# Altium footprint library LibZynqEvalBoard.PcbLib: 75 footprints (part 2 of 5)
Each footprint in its own frame and in the unit in brackets; x right, y up, seen from the top. Pads: shape width x height; smd on the part's side, far side on the other; paste and mask are expansions set on the pad; w line width, h text height; cw(c..) or ccw(c..) is an arc to the next point about the centre after c.
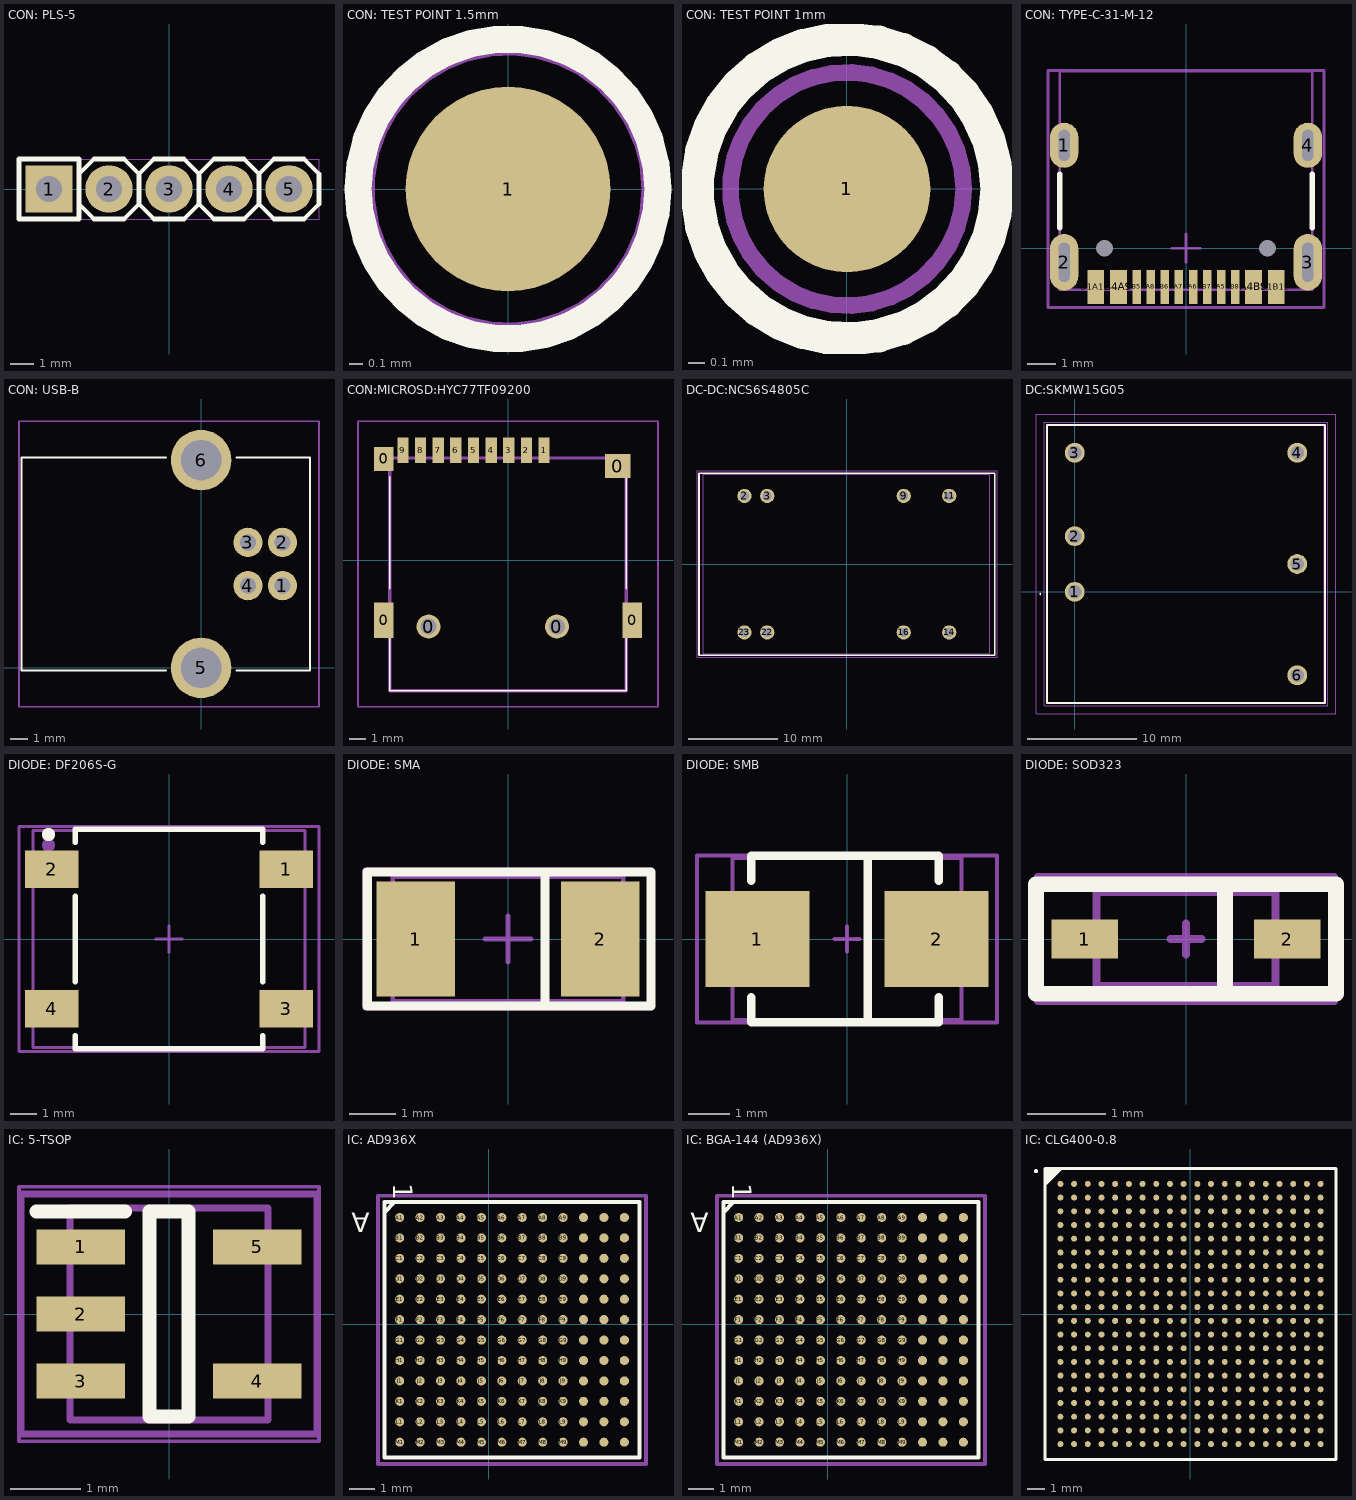
[diagram p1: the footprints below, top view; thin cyan lines are the x and y axes]

## CON: PLS-5 [mm]
height 10
pads (5):
  rect 2x2 hole 1.1: 1(-5.08,0)
  round 2 hole 1.1: 2(-2.54,0) 3(0,0) 4(2.54,0) 5(5.08,0)
Top Overlay:
  lines w0.2: -3.81,-0.635 -3.175,-1.27 -1.905,-1.27 -1.27,-0.635 ; -3.81,0.635 -3.175,1.27 -1.905,1.27 -1.27,0.635 ; -1.27,-0.635 -0.635,-1.27 0.635,-1.27 1.27,-0.635 ; -1.27,-0.635 -1.27,0.635 ; -1.27,0.635 -0.635,1.27 0.635,1.27 1.27,0.635 ; 1.27,-0.635 1.905,-1.27 3.175,-1.27 3.81,-0.635 ; 1.27,-0.635 1.27,0.635 ; 1.27,0.635 1.905,1.27 3.175,1.27 3.81,0.635 ; 3.81,-0.635 4.445,-1.27 5.715,-1.27 6.35,-0.635 6.35,0.635 5.715,1.27 4.445,1.27 3.81,0.635 ; 3.81,-0.635 3.81,0.635 ; -6.35,-1.27 -3.81,-1.27 -3.81,1.27 -6.35,1.27 -6.35,-1.27
Top Assembly:
  lines w0.1: -3.81,-0.635 -3.175,-1.27 -1.905,-1.27 -1.27,-0.635 ; -3.81,0.635 -3.175,1.27 -1.905,1.27 -1.27,0.635 ; -1.27,-0.635 -1.27,0.635 ; -1.27,-0.635 -0.635,-1.27 0.635,-1.27 1.27,-0.635 ; -1.27,0.635 -0.635,1.27 0.635,1.27 1.27,0.635 ; 1.27,-0.635 1.27,0.635 ; 1.27,-0.635 1.905,-1.27 3.175,-1.27 3.81,-0.635 ; 1.27,0.635 1.905,1.27 3.175,1.27 3.81,0.635 ; 3.81,-0.635 3.81,0.635 ; 3.81,-0.635 4.445,-1.27 5.715,-1.27 6.35,-0.635 6.35,0.635 5.715,1.27 4.445,1.27 3.81,0.635 ; -6.35,-1.27 -6.35,1.27 -3.81,1.27 -3.81,-1.27 -6.35,-1.27
Mechanical 15:
  lines w0.05: -6.35,-1.27 -6.35,1.27 6.35,1.27 6.35,-1.27 -6.35,-1.27
  lines w0.1: -0.5,0 0.5,0 ; 0,-0.5 0,0.5
3D body "PLS-5.STEP": height 8.54, standoff -3, extent -6.35,-1.27 6.35,1.27

## CON: TEST POINT 1.5mm [mm]
pads (1):
  round 1.5 smd: 1(0,0)
Top Overlay:
  circle w0.2: c0,0 r1.1
Top Assembly:
  circle w0.1: c0,0 r1.03
Mechanical 15:
  circle w0.1: c0,0 r1.03

## CON: TEST POINT 1mm [mm]
pads (1):
  round 1 smd: 1(0,0)
Top Overlay:
  circle w0.2: c0,0 r0.9
Top Assembly:
  circle w0.1: c0,0 r0.7

## CON: TYPE-C-31-M-12 [mm]
pads (18):
  oval 1x1.6 hole 0.4 slot 1.1 at 90 deg mask+0.075: 1(-4.32,3.65) 4(4.32,3.65)
  oval 1x2 hole 0.4 slot 1.4 at 90 deg mask+0.075: 2(-4.32,-0.5) 3(4.32,-0.5)
  rect 0.6x1.2 smd mask+0.075: A1B12(3.2,-1.375) A4B9(2.4,-1.375) B1A12(-3.2,-1.375) B4A9(-2.4,-1.375)
  rect 0.3x1.2 smd mask+0.075: A5(1.25,-1.375) A6(0.25,-1.375) A7(-0.25,-1.375) A8(-1.25,-1.375) B5(-1.75,-1.375) B6(-0.75,-1.375) B7(0.75,-1.375) B8(1.75,-1.375)
  round 0 hole 0.6 mask+0.075: MH(-2.89,0) MH(2.89,0)
Top Overlay:
  lines w0.2: -4.475,0.725 -4.475,2.625 ; 4.475,0.725 4.475,2.625
Top Assembly:
  lines w0.1: -4.475,-1.475 4.475,-1.475 4.475,6.275 -4.475,6.275 -4.475,-1.475
Mechanical 15:
  lines w0.1: -0.5,0 0.5,0 ; 0,-0.5 0,0.5 ; -4.9,-2.1 -4.9,6.3 4.9,6.3 4.9,-2.1 -4.9,-2.1
3D body "User Library-USB - C.STEP": height 3.26, standoff -1, extent -4.475,-1.475 4.475,6.275

## CON: USB-B [mm]
pads (6):
  round 1.7 hole 0.92 slot 0.925 at 0 deg paste+0 mask+0.102: 1(4.71,4.77) 2(4.71,7.27) 3(2.71,7.27) 4(2.71,4.77)
  round 3.5 hole 2.33 slot 2.33 at 0 deg paste+0 mask+0.102: 5(0,0) 6(0,12.04)
Top Overlay:
  lines w0.12: -2.05,-0.14 -10.41,-0.14 -10.41,12.18 -2.05,12.18 ; 2.05,-0.14 6.31,-0.14 6.31,12.18 2.05,12.18
Mechanical 15:
  lines w0.003: -0.082,6.146 -0.081,6.147
  lines w0.1: -10.55,-2.25 -10.55,14.29 6.825,14.29 6.825,-2.25 -10.55,-2.25
3D body "0670688000.stp": height 11.5, standoff -3.72, extent -10.25,-1.38 6.75,13.48

## CON:MICROSD:HYC77TF09200 [mm]
pads (15):
  rect 1.2x2.2 smd: 0(-7.75,-3.725) 0(7.75,-3.725)
  rect 1.2x1.5 smd: 0(-7.75,6.325)
  round 1.5 hole 1: 0(-4.95,-4.125) 0(3.05,-4.125)
  rect 1.6x1.5 smd: 0(6.85,5.875)
  rect 0.7x1.6 smd: 1(2.25,6.875) 2(1.15,6.875) 3(0.05,6.875) 4(-1.05,6.875) 5(-2.15,6.875) 6(-3.25,6.875) 7(-4.35,6.875) 8(-5.45,6.875) 9(-6.55,6.875)
Top Overlay:
  lines w0.1: -7.375,-4.775 -7.375,-8.125 7.375,-8.125 7.375,-4.775 ; -7.375,-1.775 -7.375,5.225 ; 7.375,-1.775 7.375,5.225
Top 3D Body (Mech13):
  lines w0.2: -7.375,-8.125 7.375,-8.125 7.375,6.375 -7.375,6.375 -7.375,-8.125
Mechanical 15:
  lines w0.1: -9.35,-9.125 9.35,-9.125 9.35,8.675 -9.35,8.675 -9.35,-9.125
3D body "HYC77-TF09-200.stp": height 2.1, standoff -5, extent -8.23,-8.125 8.23,7.605

## DC-DC:NCS6S4805C [mm]
pads (8):
  round 1.6 hole 1: 2(-11.43,7.62) 3(-8.89,7.62) 9(6.35,7.62) 11(11.43,7.62) 14(11.43,-7.62) 16(6.35,-7.62) 22(-8.89,-7.62) 23(-11.43,-7.62)
Top Overlay:
  lines w0.2: -16.51,-10.16 16.49,-10.16 16.51,-10.14 16.51,10.16 -16.51,10.16 -16.51,-10.16
Top Assembly:
  lines w0.1: -16.03,-9.98 15.97,-9.98 15.97,10.02 -16.03,10.02 -16.03,-9.98
Mechanical 15:
  lines w0.1: -16.73,-10.38 -16.73,10.42 16.77,10.42 16.77,-10.38 -16.73,-10.38
3D body "NCS6S4805C.stp": height 10.6, standoff -5, extent -16,-10 16,10

## DC:SKMW15G05 [mm]
pads (6):
  round 1.8 hole 1.2: 1(0,0) 2(0,5.08) 3(0,12.7) 4(20.32,12.7) 5(20.32,2.54) 6(20.32,-7.62)
Top Overlay:
  lines w0.1: -3.2,-0.2 cw(c-3.15,-0.2) -3.1,-0.2 cw(c-3.15,-0.2) -3.2,-0.2
  lines w0.2: -2.54,-10.16 -2.54,15.24 22.86,15.24 22.86,-10.16 -2.54,-10.16
Top Assembly:
  lines w0.1: -2.5,-10.2 22.8,-10.2 22.8,15.2 -2.5,15.2 -2.5,-10.2
Mechanical 15:
  lines w0.1: -2.8,-10.4 -2.8,15.5 23.1,15.5 23.1,-10.4 -2.8,-10.4
Mechanical 20:
  lines w0.1: -3.54,-11.16 -3.54,16.24 23.86,16.24 23.86,-11.16 -3.54,-11.16
3D body "SKMW15G-05.stp": height 11.3, standoff -5, extent -2.54,-10.16 22.86,15.24

## DIODE: DF206S-G [mm]
height 22
pads (6):
  rect 2x1.4 smd: 1(4.37,2.605) 2(-4.37,2.605) 3(4.37,-2.605) 4(-4.37,-2.605)
  round 0.5 on Mech1: ""(-4.5,3.5)
  round 0.5 on Top Overlay: ""(-4.5,3.9)
Top Overlay:
  lines w0.2: -3.5,-3.6 -3.5,-4.1 3.5,-4.1 3.5,-3.6 ; -3.5,-1.6 -3.5,1.6 ; -3.5,3.6 -3.5,4.1 3.5,4.1 3.5,3.6 ; 3.5,-1.6 3.5,1.6
Top Assembly:
  lines w0.1: -5.075,-4.05 -5.075,4.05 5.075,4.05 5.075,-4.05 -5.075,-4.05
Mechanical 15:
  lines w0.1: -0.5,0 0.5,0 ; 0,-0.5 0,0.5 ; -5.6,-4.2 -5.6,4.2 5.6,4.2 5.6,-4.2 -5.6,-4.2
3D body "User Library-PONTE-1.STEP": height 2.7, standoff 0, extent -5.075,-4.05 5.075,4.05

## DIODE: SMA [mm]
pads (3):
  rect 1.7x2.5 smd: 1(-2,0) 2(2,0)
  round 0.5 on Mech1: ""(2,0.9)
Top Overlay:
  lines w0.2: 0.8,-1.45 0.8,1.45 ; -3.05,-1.45 3.1,-1.45 3.1,1.45 -3.05,1.45 -3.05,-1.45
Top Assembly:
  lines w0.1: -2.5,-1.35 2.5,-1.35 2.5,1.35 -2.5,1.35 -2.5,-1.35
Mechanical 15:
  lines w0.1: -0.5,0 0.5,0 ; 0,-0.5 0,0.5 ; -3.1,-1.5 -3.1,1.5 3.1,1.5 3.1,-1.5 -3.1,-1.5
3D body "User Library-Diode Molded BodyDIOM5025X231N.STEP": height 2.28, standoff -0.03, extent -2.5,-1.35 2.5,1.35

## DIODE: SMB [mm]
pads (2):
  rect 2.5x2.3 smd: 1(-2.15,0) 2(2.15,0)
Top Overlay:
  lines w0.2: -2.3,-1.4 -2.3,-2 2.2,-2 2.2,-1.4 ; -2.3,1.4 -2.3,2 2.2,2 2.2,1.4 ; 0.5,-2 0.5,2
Top Assembly:
  lines w0.1: 0.5,-1.95 0.5,1.95 ; -2.75,-1.95 2.75,-1.95 2.75,1.95 -2.75,1.95 -2.75,-1.95
Mechanical 15:
  lines w0.1: -0.3,0 0.3,0 ; 0,-0.3 0,0.3 ; -3.6,-2 -3.6,2 3.6,2 3.6,-2 -3.6,-2
3D body "User Library-DIOM5539X24.STEP": height 2.45, standoff 0.03, extent -2.75,-1.95 2.75,1.95

## DIODE: SOD323 [mm]
pads (2):
  rect 0.85x0.5 smd: 1(-1.3,0) 2(1.3,0)
Top Overlay:
  lines w0.2: 0.5,-0.7 0.5,0.7 ; -1.925,-0.7 1.925,-0.7 1.925,0.7 -1.925,0.7 -1.925,-0.7
Top Assembly:
  lines w0.1: 0.5,-0.6 0.5,0.575 ; -1.15,-0.6 -1.15,0.6 1.15,0.6 1.15,-0.6 -1.15,-0.6
Mechanical 15:
  lines w0.1: -0.2,0 0.2,0 ; 0,-0.2 0,0.2 ; -1.9,-0.8 1.9,-0.8 1.9,0.8 -1.9,0.8 -1.9,-0.8
3D body "User Library-1N4148WS.STEP": height 1.04, standoff -0.06, extent -1.15,-0.6 1.15,0.6

## IC: 5-TSOP [mm]
pads (5):
  rect 1.25x0.5 smd: 1(-1.25,0.95) 2(-1.25,0) 3(-1.25,-0.95) 4(1.25,-0.95) 5(1.25,0.95)
Top Overlay:
  lines w0.2: -1.875,1.45 -0.625,1.45 ; -0.275,-1.45 0.275,-1.45 0.275,1.45 -0.275,1.45 -0.275,-1.45
Top Assembly:
  lines w0.1: -1.4,-1.5 -1.4,1.5 1.4,1.5 1.4,-1.5 -1.4,-1.5
Mechanical 15:
  lines w0.1: -2.1,-1.7 2.1,-1.7 2.1,1.7 -2.1,1.7 -2.1,-1.7
Mechanical 20:
  lines w0.05: -2.125,-1.8 2.125,-1.8 2.125,1.8 -2.125,1.8 -2.125,-1.8
3D body "74LVC1G125GV,125.stp": height 1.02, standoff 0.02, extent -1.389,-1.475 1.4,1.475

## IC: AD936X [mil]
pads (144):
  round 14 smd: A1(-137.01,164.51) A2(-105.51,164.51) A3(-74.02,164.51) A4(-42.52,164.51) A5(-11.02,164.51) A6(20.47,164.51) A7(51.97,164.51) A8(83.46,164.51) A9(114.96,164.51) A10(146.46,164.51) A11(177.95,164.51) A12(209.45,164.51) B1(-137.01,133.01) B2(-105.51,133.01) B3(-74.02,133.01) B4(-42.52,133.01) B5(-11.02,133.01) B6(20.47,133.01) B7(51.97,133.01) B8(83.46,133.01) B9(114.96,133.01) B10(146.46,133.01) B11(177.95,133.01) B12(209.45,133.01) C1(-137.01,101.52) C2(-105.51,101.52) C3(-74.02,101.52) C4(-42.52,101.52) C5(-11.02,101.52) C6(20.47,101.52) C7(51.97,101.52) C8(83.46,101.52) C9(114.96,101.52) C10(146.46,101.52) C11(177.95,101.52) C12(209.45,101.52) D1(-137.01,70.02) D2(-105.51,70.02) D3(-74.02,70.02) D4(-42.52,70.02) D5(-11.02,70.02) D6(20.47,70.02) D7(51.97,70.02) D8(83.46,70.02) D9(114.96,70.02) D10(146.46,70.02) D11(177.95,70.02) D12(209.45,70.02) E1(-137.01,38.52) E2(-105.51,38.52) E3(-74.02,38.52) E4(-42.52,38.52) E5(-11.02,38.52) E6(20.47,38.52) E7(51.97,38.52) E8(83.46,38.52) E9(114.96,38.52) E10(146.46,38.52) E11(177.95,38.52) E12(209.45,38.52) F1(-137.01,7.03) F2(-105.51,7.03) F3(-74.02,7.03) F4(-42.52,7.03) F5(-11.02,7.03) F6(20.47,7.03) F7(51.97,7.03) F8(83.46,7.03) F9(114.96,7.03) F10(146.46,7.03) F11(177.95,7.03) F12(209.45,7.03) G1(-137.01,-24.47) G2(-105.51,-24.47) G3(-74.02,-24.47) G4(-42.52,-24.47) G5(-11.02,-24.47) G6(20.47,-24.47) G7(51.97,-24.47) G8(83.46,-24.47) G9(114.96,-24.47) G10(146.46,-24.47) G11(177.95,-24.47) G12(209.45,-24.47) H1(-137.01,-55.96) H2(-105.51,-55.96) H3(-74.02,-55.96) H4(-42.52,-55.96) H5(-11.02,-55.96) H6(20.47,-55.96) H7(51.97,-55.96) H8(83.46,-55.96) H9(114.96,-55.96) H10(146.46,-55.96) H11(177.95,-55.96) H12(209.45,-55.96) J1(-137.01,-87.46) J2(-105.51,-87.46) J3(-74.02,-87.46) J4(-42.52,-87.46) J5(-11.02,-87.46) J6(20.47,-87.46) J7(51.97,-87.46) J8(83.46,-87.46) J9(114.96,-87.46) J10(146.46,-87.46) J11(177.95,-87.46) J12(209.45,-87.46) K1(-137.01,-118.96) K2(-105.51,-118.96) K3(-74.02,-118.96) K4(-42.52,-118.96) K5(-11.02,-118.96) K6(20.47,-118.96) K7(51.97,-118.96) K8(83.46,-118.96) K9(114.96,-118.96) K10(146.46,-118.96) K11(177.95,-118.96) K12(209.45,-118.96) L1(-137.01,-150.45) L2(-105.51,-150.45) L3(-74.02,-150.45) L4(-42.52,-150.45) L5(-11.02,-150.45) L6(20.47,-150.45) L7(51.97,-150.45) L8(83.46,-150.45) L9(114.96,-150.45) L10(146.46,-150.45) L11(177.95,-150.45) L12(209.45,-150.45) M1(-137.01,-181.95) M2(-105.51,-181.95) M3(-74.02,-181.95) M4(-42.52,-181.95) M5(-11.02,-181.95) M6(20.47,-181.95) M7(51.97,-181.95) M8(83.46,-181.95) M9(114.96,-181.95) M10(146.46,-181.95) M11(177.95,-181.95) M12(209.45,-181.95)
Top Overlay:
  lines w6: -160.63,172.38 -144.88,188.13 ; -160.63,-205.57 -160.63,188.13 233.07,188.13 233.07,-205.57 -160.63,-205.57
  text "A" at -183,172 h30
  text "1" at -147,217 h30
Bottom Assembly:
  lines w1: -160.63,172.38 -144.88,188.13 ; -160.63,-205.57 -160.63,188.13 233.07,188.13 233.07,-205.57 -160.63,-205.57
  lines w6: -170.63,-215.57 243.07,-215.57 243.07,198.13 -170.63,198.13 -170.63,-215.57

## IC: BGA-144 (AD936X) [mil]
pads (144):
  round 14 smd: A1(-137.01,164.51) A2(-105.51,164.51) A3(-74.02,164.51) A4(-42.52,164.51) A5(-11.02,164.51) A6(20.47,164.51) A7(51.97,164.51) A8(83.46,164.51) A9(114.96,164.51) A10(146.46,164.51) A11(177.95,164.51) A12(209.45,164.51) B1(-137.01,133.01) B2(-105.51,133.01) B3(-74.02,133.01) B4(-42.52,133.01) B5(-11.02,133.01) B6(20.47,133.01) B7(51.97,133.01) B8(83.46,133.01) B9(114.96,133.01) B10(146.46,133.01) B11(177.95,133.01) B12(209.45,133.01) C1(-137.01,101.52) C2(-105.51,101.52) C3(-74.02,101.52) C4(-42.52,101.52) C5(-11.02,101.52) C6(20.47,101.52) C7(51.97,101.52) C8(83.46,101.52) C9(114.96,101.52) C10(146.46,101.52) C11(177.95,101.52) C12(209.45,101.52) D1(-137.01,70.02) D2(-105.51,70.02) D3(-74.02,70.02) D4(-42.52,70.02) D5(-11.02,70.02) D6(20.47,70.02) D7(51.97,70.02) D8(83.46,70.02) D9(114.96,70.02) D10(146.46,70.02) D11(177.95,70.02) D12(209.45,70.02) E1(-137.01,38.52) E2(-105.51,38.52) E3(-74.02,38.52) E4(-42.52,38.52) E5(-11.02,38.52) E6(20.47,38.52) E7(51.97,38.52) E8(83.46,38.52) E9(114.96,38.52) E10(146.46,38.52) E11(177.95,38.52) E12(209.45,38.52) F1(-137.01,7.03) F2(-105.51,7.03) F3(-74.02,7.03) F4(-42.52,7.03) F5(-11.02,7.03) F6(20.47,7.03) F7(51.97,7.03) F8(83.46,7.03) F9(114.96,7.03) F10(146.46,7.03) F11(177.95,7.03) F12(209.45,7.03) G1(-137.01,-24.47) G2(-105.51,-24.47) G3(-74.02,-24.47) G4(-42.52,-24.47) G5(-11.02,-24.47) G6(20.47,-24.47) G7(51.97,-24.47) G8(83.46,-24.47) G9(114.96,-24.47) G10(146.46,-24.47) G11(177.95,-24.47) G12(209.45,-24.47) H1(-137.01,-55.96) H2(-105.51,-55.96) H3(-74.02,-55.96) H4(-42.52,-55.96) H5(-11.02,-55.96) H6(20.47,-55.96) H7(51.97,-55.96) H8(83.46,-55.96) H9(114.96,-55.96) H10(146.46,-55.96) H11(177.95,-55.96) H12(209.45,-55.96) J1(-137.01,-87.46) J2(-105.51,-87.46) J3(-74.02,-87.46) J4(-42.52,-87.46) J5(-11.02,-87.46) J6(20.47,-87.46) J7(51.97,-87.46) J8(83.46,-87.46) J9(114.96,-87.46) J10(146.46,-87.46) J11(177.95,-87.46) J12(209.45,-87.46) K1(-137.01,-118.96) K2(-105.51,-118.96) K3(-74.02,-118.96) K4(-42.52,-118.96) K5(-11.02,-118.96) K6(20.47,-118.96) K7(51.97,-118.96) K8(83.46,-118.96) K9(114.96,-118.96) K10(146.46,-118.96) K11(177.95,-118.96) K12(209.45,-118.96) L1(-137.01,-150.45) L2(-105.51,-150.45) L3(-74.02,-150.45) L4(-42.52,-150.45) L5(-11.02,-150.45) L6(20.47,-150.45) L7(51.97,-150.45) L8(83.46,-150.45) L9(114.96,-150.45) L10(146.46,-150.45) L11(177.95,-150.45) L12(209.45,-150.45) M1(-137.01,-181.95) M2(-105.51,-181.95) M3(-74.02,-181.95) M4(-42.52,-181.95) M5(-11.02,-181.95) M6(20.47,-181.95) M7(51.97,-181.95) M8(83.46,-181.95) M9(114.96,-181.95) M10(146.46,-181.95) M11(177.95,-181.95) M12(209.45,-181.95)
Top Overlay:
  lines w6: -160.63,172.38 -144.88,188.13 ; -160.63,-205.57 233.07,-205.57 233.07,188.13 -160.63,188.13 -160.63,-205.57
  text "1" at -147,217 h30
  text "A" at -183,172 h30
Bottom Assembly:
  lines w1: -160.63,172.38 -144.88,188.13 ; -160.63,-205.57 233.07,-205.57 233.07,188.13 -160.63,188.13 -160.63,-205.57
  lines w6: -170.63,-215.57 -170.63,198.13 243.07,198.13 243.07,-215.57 -170.63,-215.57

## IC: CLG400-0.8 [mm]
pads (400):
  round 0.35 smd: A1(-7.6,7.6) A2(-6.8,7.6) A3(-6,7.6) A4(-5.2,7.6) A5(-4.4,7.6) A6(-3.6,7.6) A7(-2.8,7.6) A8(-2,7.6) A9(-1.2,7.6) A10(-0.4,7.6) A11(0.4,7.6) A12(1.2,7.6) A13(2,7.6) A14(2.8,7.6) A15(3.6,7.6) A16(4.4,7.6) A17(5.2,7.6) A18(6,7.6) A19(6.8,7.6) A20(7.6,7.6) B1(-7.6,6.8) B2(-6.8,6.8) B3(-6,6.8) B4(-5.2,6.8) B5(-4.4,6.8) B6(-3.6,6.8) B7(-2.8,6.8) B8(-2,6.8) B9(-1.2,6.8) B10(-0.4,6.8) B11(0.4,6.8) B12(1.2,6.8) B13(2,6.8) B14(2.8,6.8) B15(3.6,6.8) B16(4.4,6.8) B17(5.2,6.8) B18(6,6.8) B19(6.8,6.8) B20(7.6,6.8) C1(-7.6,6) C2(-6.8,6) C3(-6,6) C4(-5.2,6) C5(-4.4,6) C6(-3.6,6) C7(-2.8,6) C8(-2,6) C9(-1.2,6) C10(-0.4,6) C11(0.4,6) C12(1.2,6) C13(2,6) C14(2.8,6) C15(3.6,6) C16(4.4,6) C17(5.2,6) C18(6,6) C19(6.8,6) C20(7.6,6) D1(-7.6,5.2) D2(-6.8,5.2) D3(-6,5.2) D4(-5.2,5.2) D5(-4.4,5.2) D6(-3.6,5.2) D7(-2.8,5.2) D8(-2,5.2) D9(-1.2,5.2) D10(-0.4,5.2) D11(0.4,5.2) D12(1.2,5.2) D13(2,5.2) D14(2.8,5.2) D15(3.6,5.2) D16(4.4,5.2) D17(5.2,5.2) D18(6,5.2) D19(6.8,5.2) D20(7.6,5.2) E1(-7.6,4.4) E2(-6.8,4.4) E3(-6,4.4) E4(-5.2,4.4) E5(-4.4,4.4) E6(-3.6,4.4) E7(-2.8,4.4) E8(-2,4.4) E9(-1.2,4.4) E10(-0.4,4.4) E11(0.4,4.4) E12(1.2,4.4) E13(2,4.4) E14(2.8,4.4) E15(3.6,4.4) E16(4.4,4.4) E17(5.2,4.4) E18(6,4.4) E19(6.8,4.4) E20(7.6,4.4) F1(-7.6,3.6) F2(-6.8,3.6) F3(-6,3.6) F4(-5.2,3.6) F5(-4.4,3.6) F6(-3.6,3.6) F7(-2.8,3.6) F8(-2,3.6) F9(-1.2,3.6) F10(-0.4,3.6) F11(0.4,3.6) F12(1.2,3.6) F13(2,3.6) F14(2.8,3.6) F15(3.6,3.6) F16(4.4,3.6) F17(5.2,3.6) F18(6,3.6) F19(6.8,3.6) F20(7.6,3.6) G1(-7.6,2.8) G2(-6.8,2.8) G3(-6,2.8) G4(-5.2,2.8) G5(-4.4,2.8) G6(-3.6,2.8) G7(-2.8,2.8) G8(-2,2.8) G9(-1.2,2.8) G10(-0.4,2.8) G11(0.4,2.8) G12(1.2,2.8) G13(2,2.8) G14(2.8,2.8) G15(3.6,2.8) G16(4.4,2.8) G17(5.2,2.8) G18(6,2.8) G19(6.8,2.8) G20(7.6,2.8) H1(-7.6,2) H2(-6.8,2) H3(-6,2) H4(-5.2,2) H5(-4.4,2) H6(-3.6,2) H7(-2.8,2) H8(-2,2) H9(-1.2,2) H10(-0.4,2) H11(0.4,2) H12(1.2,2) H13(2,2) H14(2.8,2) H15(3.6,2) H16(4.4,2) H17(5.2,2) H18(6,2) H19(6.8,2) H20(7.6,2) J1(-7.6,1.2) J2(-6.8,1.2) J3(-6,1.2) J4(-5.2,1.2) J5(-4.4,1.2) J6(-3.6,1.2) J7(-2.8,1.2) J8(-2,1.2) J9(-1.2,1.2) J10(-0.4,1.2) J11(0.4,1.2) J12(1.2,1.2) J13(2,1.2) J14(2.8,1.2) J15(3.6,1.2) J16(4.4,1.2) J17(5.2,1.2) J18(6,1.2) J19(6.8,1.2) J20(7.6,1.2) K1(-7.6,0.4) K2(-6.8,0.4) K3(-6,0.4) K4(-5.2,0.4) K5(-4.4,0.4) K6(-3.6,0.4) K7(-2.8,0.4) K8(-2,0.4) K9(-1.2,0.4) K10(-0.4,0.4) K11(0.4,0.4) K12(1.2,0.4) K13(2,0.4) K14(2.8,0.4) K15(3.6,0.4) K16(4.4,0.4) K17(5.2,0.4) K18(6,0.4) K19(6.8,0.4) K20(7.6,0.4) L1(-7.6,-0.4) L2(-6.8,-0.4) L3(-6,-0.4) L4(-5.2,-0.4) L5(-4.4,-0.4) L6(-3.6,-0.4) L7(-2.8,-0.4) L8(-2,-0.4) L9(-1.2,-0.4) L10(-0.4,-0.4) L11(0.4,-0.4) L12(1.2,-0.4) L13(2,-0.4) L14(2.8,-0.4) L15(3.6,-0.4) L16(4.4,-0.4) L17(5.2,-0.4) L18(6,-0.4) L19(6.8,-0.4) L20(7.6,-0.4) M1(-7.6,-1.2) M2(-6.8,-1.2) M3(-6,-1.2) M4(-5.2,-1.2) M5(-4.4,-1.2) M6(-3.6,-1.2) M7(-2.8,-1.2) M8(-2,-1.2) M9(-1.2,-1.2) M10(-0.4,-1.2) M11(0.4,-1.2) M12(1.2,-1.2) M13(2,-1.2) M14(2.8,-1.2) M15(3.6,-1.2) M16(4.4,-1.2) M17(5.2,-1.2) M18(6,-1.2) M19(6.8,-1.2) M20(7.6,-1.2) N1(-7.6,-2) N2(-6.8,-2) N3(-6,-2) N4(-5.2,-2) N5(-4.4,-2) N6(-3.6,-2) N7(-2.8,-2) N8(-2,-2) N9(-1.2,-2) N10(-0.4,-2) N11(0.4,-2) N12(1.2,-2) N13(2,-2) N14(2.8,-2) N15(3.6,-2) N16(4.4,-2) N17(5.2,-2) N18(6,-2) N19(6.8,-2) N20(7.6,-2) P1(-7.6,-2.8) P2(-6.8,-2.8) P3(-6,-2.8) P4(-5.2,-2.8) P5(-4.4,-2.8) P6(-3.6,-2.8) P7(-2.8,-2.8) P8(-2,-2.8) P9(-1.2,-2.8) P10(-0.4,-2.8) P11(0.4,-2.8) P12(1.2,-2.8) P13(2,-2.8) P14(2.8,-2.8) P15(3.6,-2.8) P16(4.4,-2.8) P17(5.2,-2.8) P18(6,-2.8) P19(6.8,-2.8) P20(7.6,-2.8) R1(-7.6,-3.6) R2(-6.8,-3.6) R3(-6,-3.6) R4(-5.2,-3.6) R5(-4.4,-3.6) R6(-3.6,-3.6) R7(-2.8,-3.6) R8(-2,-3.6) R9(-1.2,-3.6) R10(-0.4,-3.6) R11(0.4,-3.6) R12(1.2,-3.6) R13(2,-3.6) R14(2.8,-3.6) R15(3.6,-3.6) R16(4.4,-3.6) R17(5.2,-3.6) R18(6,-3.6) R19(6.8,-3.6) R20(7.6,-3.6) T1(-7.6,-4.4) T2(-6.8,-4.4) T3(-6,-4.4) T4(-5.2,-4.4) T5(-4.4,-4.4) T6(-3.6,-4.4) T7(-2.8,-4.4) T8(-2,-4.4) T9(-1.2,-4.4) T10(-0.4,-4.4) T11(0.4,-4.4) T12(1.2,-4.4) T13(2,-4.4) T14(2.8,-4.4) T15(3.6,-4.4) T16(4.4,-4.4) T17(5.2,-4.4) T18(6,-4.4) T19(6.8,-4.4) T20(7.6,-4.4) U1(-7.6,-5.2) U2(-6.8,-5.2) U3(-6,-5.2) U4(-5.2,-5.2) U5(-4.4,-5.2) U6(-3.6,-5.2) U7(-2.8,-5.2) U8(-2,-5.2) U9(-1.2,-5.2) U10(-0.4,-5.2) U11(0.4,-5.2) U12(1.2,-5.2) U13(2,-5.2) U14(2.8,-5.2) U15(3.6,-5.2) U16(4.4,-5.2) U17(5.2,-5.2) U18(6,-5.2) U19(6.8,-5.2) U20(7.6,-5.2) V1(-7.6,-6) V2(-6.8,-6) V3(-6,-6) V4(-5.2,-6) V5(-4.4,-6) V6(-3.6,-6) V7(-2.8,-6) V8(-2,-6) V9(-1.2,-6) V10(-0.4,-6) V11(0.4,-6) V12(1.2,-6) V13(2,-6) V14(2.8,-6) V15(3.6,-6) V16(4.4,-6) V17(5.2,-6) V18(6,-6) V19(6.8,-6) V20(7.6,-6) W1(-7.6,-6.8) W2(-6.8,-6.8) W3(-6,-6.8) W4(-5.2,-6.8) W5(-4.4,-6.8) W6(-3.6,-6.8) W7(-2.8,-6.8) W8(-2,-6.8) W9(-1.2,-6.8) W10(-0.4,-6.8) W11(0.4,-6.8) W12(1.2,-6.8) W13(2,-6.8) W14(2.8,-6.8) W15(3.6,-6.8) W16(4.4,-6.8) W17(5.2,-6.8) W18(6,-6.8) W19(6.8,-6.8) W20(7.6,-6.8) Y1(-7.6,-7.6) Y2(-6.8,-7.6) Y3(-6,-7.6) Y4(-5.2,-7.6) Y5(-4.4,-7.6) Y6(-3.6,-7.6) Y7(-2.8,-7.6) Y8(-2,-7.6) Y9(-1.2,-7.6) Y10(-0.4,-7.6) Y11(0.4,-7.6) Y12(1.2,-7.6) Y13(2,-7.6) Y14(2.8,-7.6) Y15(3.6,-7.6) Y16(4.4,-7.6) Y17(5.2,-7.6) Y18(6,-7.6) Y19(6.8,-7.6) Y20(7.6,-7.6)
Top Overlay:
  circle w0.25: c-9.025,8.349 r0
  region: -7.584,8.5 -8.5,7.584 -8.5,8.5
  lines w0.2: -8.5,7.584 -7.584,8.5 ; -8.5,-8.5 8.5,-8.5 8.5,8.5 -8.5,8.5 -8.5,-8.5
Mechanical 15:
  lines w0.003: 0.461,0.102 0.511,0.152